# EAGLE library part 690367180672 (library Eagle_BOARD-TO-BOARD_CONNECTORS (rev18b))
WR-MM Female Connector without Latch and without Polarization, 6 Pins=>Code : Con_BTB_MM_Female_THT_St_690367180672 <http://katalog.we-online.de/media/thumbs2/eican/thb_Con_BTB_MM_Female_THT_St_69036718xx72_pf2.jpg> Details see: http://katalog.we-online.de/en/em/6903_6718_xx_72 Created 2014-06-04, Karrer Zheng 2014 (C) Würth Elektronik
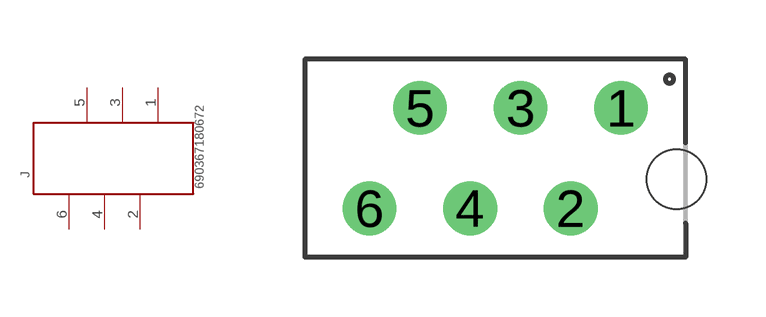
[diagram p327: symbol with the pads of 690367180672; footprint 690367180672]

Designator prefix J

## 690367180672  [690367180672]
1  6  pas
2  5  pas
3  4  pas
4  3  pas
5  2  pas
6  1  pas

## Footprint 690367180672 (pad centres in mm)
WR-MM Female Connector without Latch and without Polarization, 6 Pins
drill 0.85: 1 3.175,1.27; 2 1.905,-1.27; 3 0.635,1.27; 4 -0.635,-1.27; 5 -1.905,1.27; 6 -3.175,-1.27
hole 1.5 at 4.575,-0.53